# Altium footprint library Powerswitch.PcbLib: 8 footprints
Each footprint in its own frame and in the unit in brackets; x right, y up, seen from the top. Pads: shape width x height; smd on the part's side, far side on the other; paste and mask are expansions set on the pad; w line width, h text height; cw(c..) or ccw(c..) is an arc to the next point about the centre after c.
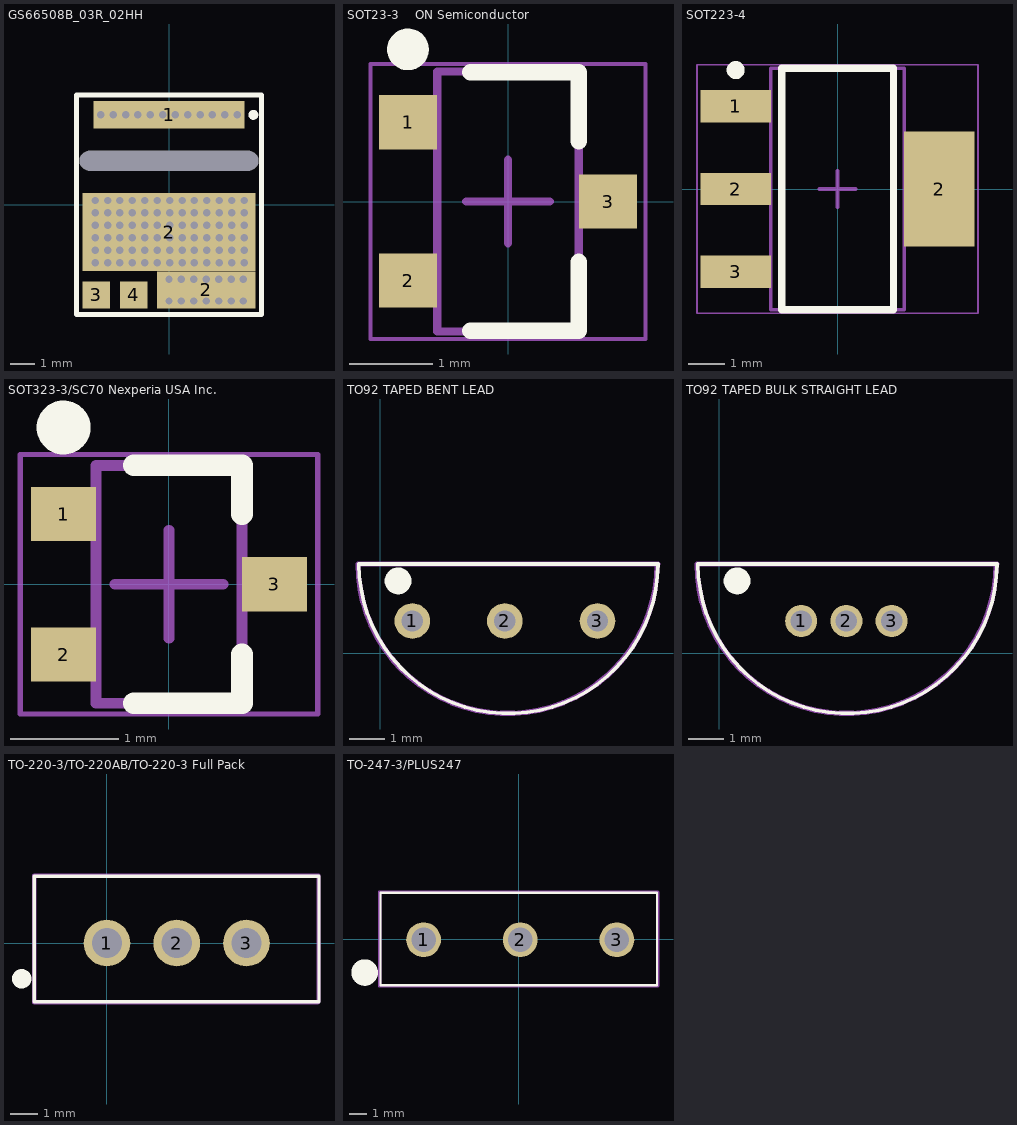
[diagram p0: the footprints below, top view; thin cyan lines are the x and y axes]

## GS66508B_03R_02HH [mm] "Bottom-side cooled (650 V, 30A) E-mode GaN transistor"
height 0.51
pads (6):
  rect 0x0 hole 0.8 slot 7.2 at 0 deg unplated: 0(0,1.775)
  rect 6.1x1.1 all layers, no hole: 1(0,3.63)
  rect 6.95x3.15 all layers, no hole: 2(0,-1.1)
  rect 3.95x1.5 all layers, no hole: 2(1.5,-3.43)
  rect 1.1x1.1 smd: 3(-2.93,-3.63) 4(-1.42,-3.63)
via -2.975,0.175 diameter 0.6 hole 0.3
via -2.475,0.175 diameter 0.6 hole 0.3
via -1.975,0.175 diameter 0.6 hole 0.3
via -1.475,0.175 diameter 0.6 hole 0.3
via -0.975,0.175 diameter 0.6 hole 0.3
via -0.475,0.175 diameter 0.6 hole 0.3
via 0.025,0.175 diameter 0.6 hole 0.3
via 0.525,0.175 diameter 0.6 hole 0.3
via 1.025,0.175 diameter 0.6 hole 0.3
via 1.525,0.175 diameter 0.6 hole 0.3
via 2.025,0.175 diameter 0.6 hole 0.3
via 2.525,0.175 diameter 0.6 hole 0.3
via 3.025,0.175 diameter 0.6 hole 0.3
via 3.025,-0.325 diameter 0.6 hole 0.3
via 2.525,-0.325 diameter 0.6 hole 0.3
via 2.025,-0.325 diameter 0.6 hole 0.3
via 1.525,-0.325 diameter 0.6 hole 0.3
via 1.025,-0.325 diameter 0.6 hole 0.3
via 0.525,-0.325 diameter 0.6 hole 0.3
via 0.025,-0.325 diameter 0.6 hole 0.3
via -0.475,-0.325 diameter 0.6 hole 0.3
via -0.975,-0.325 diameter 0.6 hole 0.3
via -1.475,-0.325 diameter 0.6 hole 0.3
via -1.975,-0.325 diameter 0.6 hole 0.3
via -2.475,-0.325 diameter 0.6 hole 0.3
via -2.975,-0.325 diameter 0.6 hole 0.3
via 3.025,-0.825 diameter 0.6 hole 0.3
via 2.525,-0.825 diameter 0.6 hole 0.3
via 2.025,-0.825 diameter 0.6 hole 0.3
via 1.525,-0.825 diameter 0.6 hole 0.3
via 1.025,-0.825 diameter 0.6 hole 0.3
via 0.525,-0.825 diameter 0.6 hole 0.3
via 0.025,-0.825 diameter 0.6 hole 0.3
via -0.475,-0.825 diameter 0.6 hole 0.3
via -0.975,-0.825 diameter 0.6 hole 0.3
via -1.475,-0.825 diameter 0.6 hole 0.3
via -1.975,-0.825 diameter 0.6 hole 0.3
via -2.475,-0.825 diameter 0.6 hole 0.3
via -2.975,-0.825 diameter 0.6 hole 0.3
via 3.025,-1.325 diameter 0.6 hole 0.3
via 2.525,-1.325 diameter 0.6 hole 0.3
via 2.025,-1.325 diameter 0.6 hole 0.3
via 1.525,-1.325 diameter 0.6 hole 0.3
via 1.025,-1.325 diameter 0.6 hole 0.3
via 0.525,-1.325 diameter 0.6 hole 0.3
via 0.025,-1.325 diameter 0.6 hole 0.3
via -0.475,-1.325 diameter 0.6 hole 0.3
via -0.975,-1.325 diameter 0.6 hole 0.3
via -1.475,-1.325 diameter 0.6 hole 0.3
via -1.975,-1.325 diameter 0.6 hole 0.3
via -2.475,-1.325 diameter 0.6 hole 0.3
via -2.975,-1.325 diameter 0.6 hole 0.3
via 3.025,-1.825 diameter 0.6 hole 0.3
via 2.525,-1.825 diameter 0.6 hole 0.3
via 2.025,-1.825 diameter 0.6 hole 0.3
via 1.525,-1.825 diameter 0.6 hole 0.3
via 1.025,-1.825 diameter 0.6 hole 0.3
via 0.525,-1.825 diameter 0.6 hole 0.3
via 0.025,-1.825 diameter 0.6 hole 0.3
via -0.475,-1.825 diameter 0.6 hole 0.3
via -0.975,-1.825 diameter 0.6 hole 0.3
via -1.475,-1.825 diameter 0.6 hole 0.3
via -1.975,-1.825 diameter 0.6 hole 0.3
via -2.475,-1.825 diameter 0.6 hole 0.3
via -2.975,-1.825 diameter 0.6 hole 0.3
via 3.025,-2.325 diameter 0.6 hole 0.3
via 2.525,-2.325 diameter 0.6 hole 0.3
via 2.025,-2.325 diameter 0.6 hole 0.3
via 1.525,-2.325 diameter 0.6 hole 0.3
via 1.025,-2.325 diameter 0.6 hole 0.3
via 0.525,-2.325 diameter 0.6 hole 0.3
via 0.025,-2.325 diameter 0.6 hole 0.3
via -0.475,-2.325 diameter 0.6 hole 0.3
via -0.975,-2.325 diameter 0.6 hole 0.3
via -1.475,-2.325 diameter 0.6 hole 0.3
via -1.975,-2.325 diameter 0.6 hole 0.3
via -2.475,-2.325 diameter 0.6 hole 0.3
via -2.975,-2.325 diameter 0.6 hole 0.3
via 0,-3 diameter 0.6 hole 0.3
via 0.5,-3 diameter 0.6 hole 0.3
via 1,-3 diameter 0.6 hole 0.3
via 1.5,-3 diameter 0.6 hole 0.3
via 2,-3 diameter 0.6 hole 0.3
via 2.5,-3 diameter 0.6 hole 0.3
via 3,-3 diameter 0.6 hole 0.3
via 0,-3.875 diameter 0.6 hole 0.3
via 0.5,-3.875 diameter 0.6 hole 0.3
via 1,-3.875 diameter 0.6 hole 0.3
via 1.5,-3.875 diameter 0.6 hole 0.3
via 2,-3.875 diameter 0.6 hole 0.3
via 2.5,-3.875 diameter 0.6 hole 0.3
via 3,-3.875 diameter 0.6 hole 0.3
via 2.75,3.625 diameter 0.6 hole 0.3
via 2.25,3.625 diameter 0.6 hole 0.3
via 1.75,3.625 diameter 0.6 hole 0.3
via 1.25,3.625 diameter 0.6 hole 0.3
via 0.75,3.625 diameter 0.6 hole 0.3
via 0.25,3.625 diameter 0.6 hole 0.3
via -0.25,3.625 diameter 0.6 hole 0.3
via -0.75,3.625 diameter 0.6 hole 0.3
via -1.25,3.625 diameter 0.6 hole 0.3
via -1.75,3.625 diameter 0.6 hole 0.3
via -2.25,3.625 diameter 0.6 hole 0.3
via -2.75,3.625 diameter 0.6 hole 0.3
Top Overlay:
  circle w0.2: c3.4,3.625 r0.1
  lines w0.2: -3.725,-4.425 3.725,-4.425 3.725,4.425 -3.725,4.425 -3.725,-4.425

## SOT23-3    ON Semiconductor [mm] "SOT23, 3-Leads, Body 2.92x2.55mm, Pitch 0.95mm, IPC High Density"
height 1.2
pads (3):
  rect 0.7x0.65 smd: 1(-1.2,0.95) 2(-1.2,-0.95) 3(1.2,0)
Top Overlay:
  circle w0.25: c-1.2,1.825 r0.125
  lines w0.2: -0.45,-1.55 0.85,-1.55 0.85,-0.725 ; -0.45,1.55 0.85,1.55 0.85,0.725
Mechanical 13:
  lines w0.1: -0.85,-1.56 0.85,-1.56 0.85,1.56 -0.85,1.56 -0.85,-1.56
Mechanical 15:
  lines w0.05: -1.65,-1.65 1.65,-1.65 1.65,1.65 -1.65,1.65 -1.65,-1.65
  lines w0.1: -0.5,0 0.5,0 ; 0,-0.5 0,0.5
  text "'.Designator'" at -1.6,0.2 h0.3
3D body: height 1.2, standoff 0.1, extent -0.85,-1.56 0.85,1.56

## SOT223-4 [mm] "SOT223, 4-Leads, Body 6.50x7.00mm (avg), Pitch 2.30mm, IPC High Density"
height 1.8
pads (4):
  rect 1.95x0.9 smd: 1(-2.825,2.3) 2(-2.825,0) 3(-2.825,-2.3)
  rect 1.95x3.2 smd: 2(2.825,0)
Top Overlay:
  circle w0.25: c-2.825,3.3 r0.125
  lines w0.2: -1.55,-3.35 -1.55,3.35 1.55,3.35 1.55,-3.35 -1.55,-3.35
Mechanical 13:
  lines w0.1: -1.85,-3.35 -1.85,3.35 1.85,3.35 1.85,-3.35 -1.85,-3.35
Mechanical 15:
  lines w0.05: -3.9,-3.45 -3.9,3.45 3.9,3.45 3.9,-3.45 -3.9,-3.45
  lines w0.1: -0.5,0 0.5,0 ; 0,-0.5 0,0.5
  text "'.Designator'" at -1.3,2.1 h1
3D body: height 1.8, standoff 0.02, extent -1.85,-3.35 1.85,3.35

## SOT323-3/SC70 Nexperia USA Inc. [mm] "SOT23, 3-Leads, Body 2.00x2.10mm, Pitch 0.65mm, IPC High Density"
height 1.1
pads (3):
  rect 0.6x0.5 smd: 1(-0.975,0.65) 2(-0.975,-0.65) 3(0.975,0)
Top Overlay:
  circle w0.25: c-0.975,1.45 r0.125
  lines w0.2: -0.325,-1.1 0.675,-1.1 0.675,-0.65 ; -0.325,1.1 0.675,1.1 0.675,0.65
Mechanical 13:
  lines w0.1: -0.675,-1.1 -0.675,1.1 0.675,1.1 0.675,-1.1 -0.675,-1.1
Mechanical 15:
  lines w0.05: -1.375,-1.2 -1.375,1.2 1.375,1.2 1.375,-1.2 -1.375,-1.2
  lines w0.1: -0.5,0 0.5,0 ; 0,-0.5 0,0.5
3D body: height 1.1, standoff 0.1, extent -0.675,-1.1 0.675,1.1

## TO92 TAPED BENT LEAD [mm]
pads (3):
  round 1 hole 0.6: 1(0.9,0.9) 2(3.5,0.9) 3(6.1,0.9)
Top Overlay:
  circle w0.4: c0.5,2.025 r0.175
  lines w0.1: -0.6,2.5 ccw(c3.6,2.5) 7.8,2.5 -0.6,2.5
Mechanical 15:
  lines w0.15: -0.625,2.5 ccw(c3.575,2.5) 7.775,2.5 ; -0.6,2.5 7.8,2.5
  text "'.Designator'" at 1.3,-0.6 h1

## TO92 TAPED BULK STRAIGHT LEAD [mm]
pads (3):
  round 0.9 hole 0.6: 1(2.3,0.9) 2(3.57,0.9) 3(4.84,0.9)
Top Overlay:
  circle w0.4: c0.5,2.025 r0.175
  lines w0.1: -0.6,2.5 ccw(c3.6,2.5) 7.8,2.5 -0.6,2.5
Mechanical 15:
  lines w0.15: -0.625,2.5 ccw(c3.575,2.5) 7.775,2.5 ; -0.6,2.5 7.8,2.5
  text "'.Designator'" at 1.3,-0.6 h1

## TO-220-3/TO-220AB/TO-220-3 Full Pack [mm]
pads (3):
  round 1.7 hole 1.1: 1(0,0) 2(2.54,0) 3(5.08,0)
Top Overlay:
  circle w0.5: c-3.1,-1.3 r0.1
  lines w0.127: -2.64,-2.14 7.72,-2.14 7.72,2.44 -2.64,2.44 -2.64,-2.14
Mechanical 1:
  lines w0.1: -2.64,-2.14 -2.64,2.44 7.72,2.44 7.72,-2.14 -2.64,-2.14
Mechanical 15:
  lines w0.15: -2.645,-2.16 -2.645,2.455 7.705,2.455 7.705,-2.13 7.675,-2.16 -2.645,-2.16
  text "'.Designator'" at -2.3,1 h2

## TO-247-3/PLUS247 [mm]
pads (3):
  round 2 hole 1.4: 1(-5.46,-0.045) 2(0.09,-0.045) 3(5.64,-0.045)
Top Overlay:
  circle w0.762: c-8.847,-1.925 r0.381
  lines w0.127: -7.935,-2.655 7.935,-2.655 7.935,2.655 -7.935,2.655 -7.935,-2.655
Mechanical 1:
  lines w0.127: -7.935,-2.655 -7.935,2.655 7.935,2.655 7.935,-2.655 -7.935,-2.655
Mechanical 15:
  lines w0.15: -8,-2.7 -8,2.7 8,2.7 8,-2.7 -8,-2.7
  text "'.Designator'" at -4.9,1.2 h2